# EAGLE library part TSL25911FN (library openag-sensors)
ams - TSL25911FN - IC LIGHT TO DGTL CONV 6-DFN Description: Optical Sensor Ambient I²C 6-WFDFN Technical Specifications: Type: Ambient Output Type: I²C Voltage - Supply: 2.7 V ~ 3.6 V Operating Temperature: -30°C ~ 70°C Mounting Type: Surface Mount Package / Case: 6-WFDFN Supplier Device Package: 6-DFN (2x2.2) Datasheet(s): TSl2591 Datasheet <http://ams.com/eng/content/download/389383/1251117/221135> Vendor(s): Digikey: TSL25911FNCT-ND <https://www.digikey.com/product-detail/en/ams/TSL25911FN/TSL25911FNCT-ND/4211515>
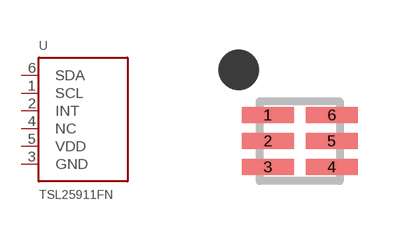
[diagram p2: symbol with the pads of DFN6_TAOS; footprint DFN6_TAOS]

Designator prefix U

## TSL25911FN (POPULATE: YES; VALUE: TSL2591; VERIFIED: NO)  [DFN6_TAOS]
1  SCL
2  INT  out
3  GND  pwr
4  NC  nc
5  VDD  pwr
6  SDA

## Footprint DFN6_TAOS (pad centres in mm)
smd 1.3 x 0.4: 1 -0.8,0.65; 2 -0.8,0; 3 -0.8,-0.65; 4 0.8,-0.65; 5 0.8,0; 6 0.8,0.65